# Altium schematic symbol library ESD.SchLib: 8 symbols
Pins are listed as number, name and electrical type; pins without a type are passive.

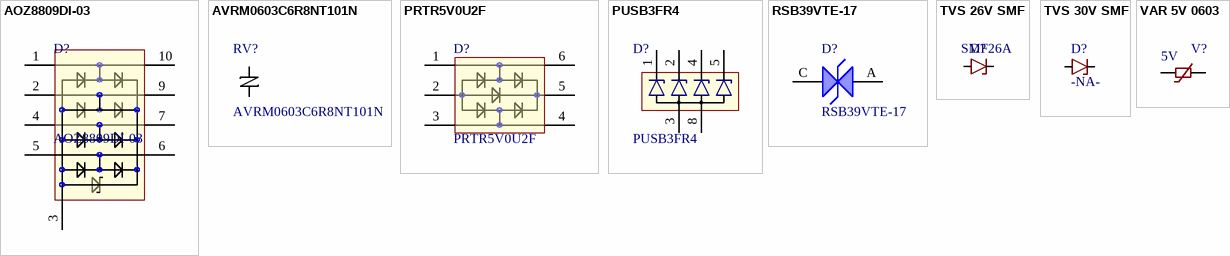
[diagram p0: symbols AOZ8809DI-03 to VAR 5V 0603]

## AOZ8809DI-03
designator D?
TVS DIODE 3.3V 8V 10DFN; MANUFACTURER: Alpha Omega; PART DESCRIPTION: 8V Clamp 12A (100ns) Ipp Tvs Diode Surface Mount 10-DFN (2.5x1); MANUFACTURER #: AOZ8809DI-03; PART: AOZ8809DI-03; VALUE: 3.3V; EE_SPEC: 3.3V
footprint AOZ8809
pins: 1 (power), 2 (power), 3 (power), 4 (power), 5 (power), 6 (power), 7 (power), 9 (power), 10 (power)

## AVRM0603C6R8NT101N
designator RV?
VARISTOR 6.8V 10A 0201; MANUFACTURER: TDK; TOLERANCE: -NA-; EE_SPEC: 3.5Vso 100pF; MANUFACTURER #: AVRM0603C6R8NT101N; PART DESCRIPTION: VARISTOR 6.8V 10A 0201; VALUE: 6.8V
footprint C0201 Large Pads (Chip Capacitor, 2-Leads, Body 0.60x0.30mm, IPC Medium Density)
pins: 1 (power), 2 (power) "1"

## PRTR5V0U2F
designator D?
Rail-to-rail ESD protection devices; MANUFACTURER #: PRTR5V0U2F,115; MANUFACTURER: NXP; PART: TVS Array, 2 Lines, Low Capacitance; PART DESCRIPTION: TVS DIODE 5.5VWM SOT886; TOLERANCE: -NA-; VALUE: 5.5V; EE_SPEC: 5.5Vso 1pF; DISTRIBUTOR #: 568-4677-2-ND; DISTRIBUTOR: Digikey
footprint SOT886
pins: 1 (power), 2 (power), 3 (power), 4 (power), 5 (power), 6 (power)

## PUSB3FR4
designator D?
TVS DIODE 3.3VWM 3VC 10XSON; MANUFACTURER #: PUSB3FR4Z; MANUFACTURER: NXP; TOLERANCE: -NA-; VALUE: 5.5V; DISTRIBUTOR #: 1727-2026-2-ND; DISTRIBUTOR: Digikey; PART: TVS DIODE 3.3VWM 3VC 10XSON; PART DESCRIPTION: TVS DIODE 3.3VWM 3VC 10XSON
footprint DFN2510
pins: 1 (power), 2 (power), 3 (power), 4 (power), 5 (power), 8 (power)

## RSB39VTE-17
designator D?
DIODE TVS; MANUFACTURER: Rohm; PART: TVS DIODE 30VWM SOD323; TOLERANCE: -NA-; VALUE: 30V; EE_SPEC: 30Vso 30pF; MANUFACTURER #: RSB39VTE-17; DISTRIBUTOR #: RSB39VTE-17TR-ND; DISTRIBUTOR: Digikey; PART DESCRIPTION: TVS DIODE 30VWM SOD323
footprint SOD323-R
pins: A (power), C (power)

## TVS 26V SMF
designator D?, comment SMF26A
TVS DIODE 26V 42.1V DO219AB; MANUFACTURER: Vishay; MANUFACTURER #: SMF26A-E3-18; PART DESCRIPTION: TVS DIODE 30VWM 48.4VC SMF; PART: SMF26A; VALUE: SMF26A
footprint SMF (Molded Diode, 2-Leads, Body 2.80x1.80mm, IPC High Density)
pins: A, K

## TVS 30V SMF
designator D?  value -NA-  (hidden comment: TVS 30V SMF)
TVS DIODE 30VWM 48.4VC SMF; MANUFACTURER: Vishay; MANUFACTURER #: SMF30A-E3-08; PART: TVS Diode 48.4VC; EE_SPEC: 30Vrs 48.4Vc; DISTRIBUTOR #: SMF30A-E3-08GITR-ND; DISTRIBUTOR: Digikey; PART DESCRIPTION: TVS DIODE 30VWM 48.4VC SMF; TOLERANCE: -NA-
footprint SMF (Molded Diode, 2-Leads, Body 2.80x1.80mm, IPC High Density)
pins: A, K

## VAR 5V 0603
designator V?, comment 5V
VAR 0603 5V 0.5Pf; MANUFACTURER: YAGEO; MANUFACTURER #: CG0603MLC-05E; PART: 5VDC; EE_SPEC: 5VDC 0.5pF; Tolerance: NA; DISTRIBUTOR #: CG0603MLC-05ETR-ND; DISTRIBUTOR: Digi-Key; Part Description: VARISTOR 0603; VALUE: 5V
footprint R0603
pins: 1, 2